# EAGLE library part BUTLED (library groovuino1)
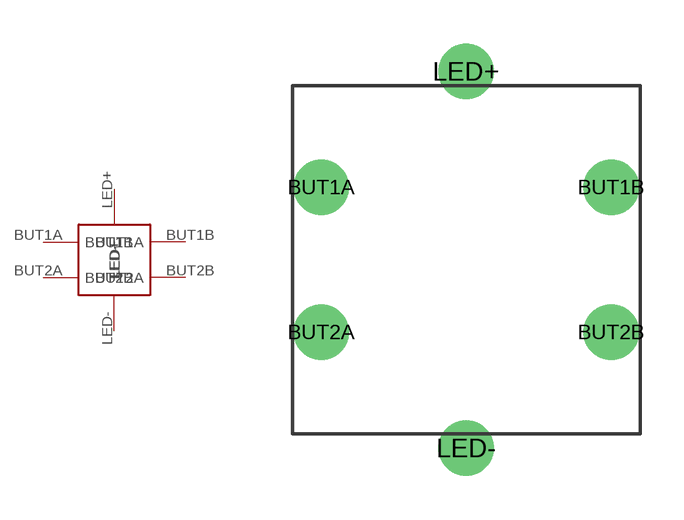
[diagram p0: symbol with the pads of LEDBUT; footprint LEDBUT]

Designator prefix -

## BUTLED  [LEDBUT]
BUT1A  BUT1A
BUT1B  BUT1B
BUT2A  BUT2A
BUT2B  BUT2B
LED+  LED+
LED-  LED-

## Footprint LEDBUT (pad centres in mm)
drill 1.1 pad 1.93: BUT1A -5,2.5; BUT1B 5,2.5; BUT2A -5,-2.5; BUT2B 5,-2.5; LED+ 0,6.5; LED- 0,-6.5